# Altium schematic symbol library IC_DC-DC.SchLib: 8 symbols
Pins are listed as number, name and electrical type; pins without a type are passive.

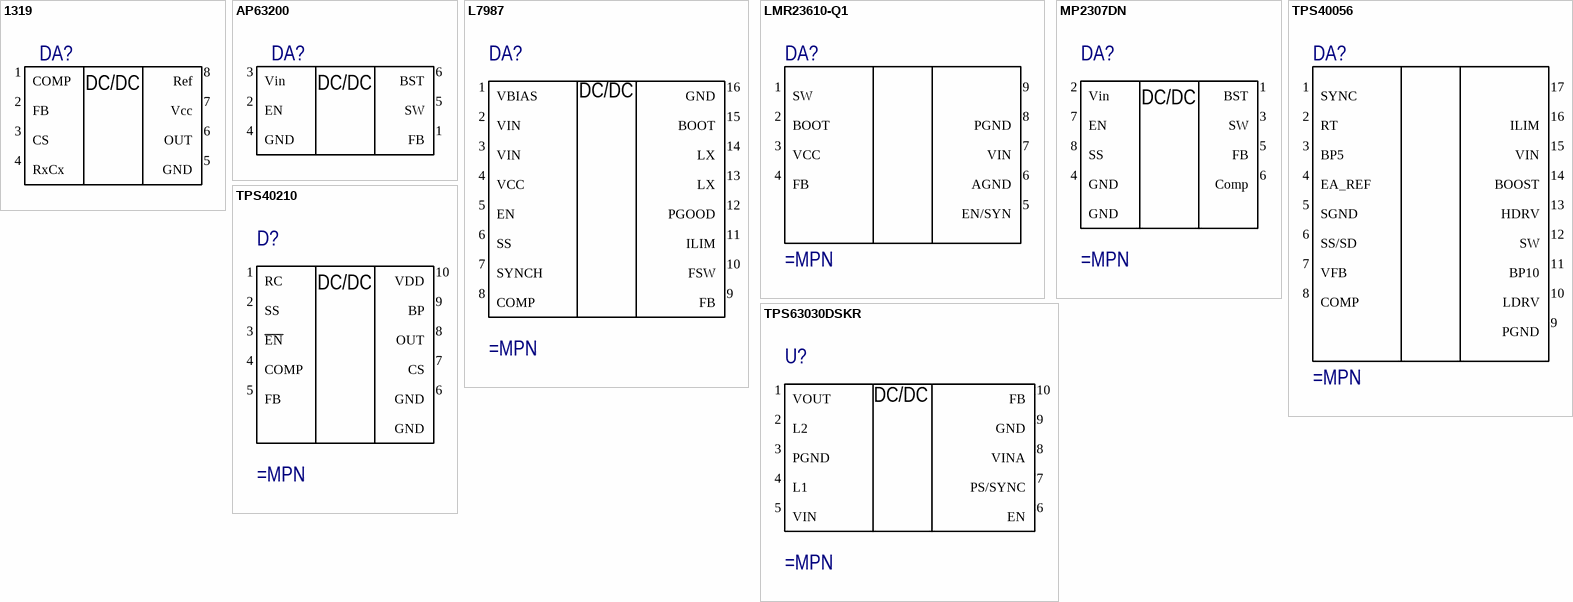
[diagram p0: symbols 1319 to TPS63030DSKR]

## 1319
designator DA?
pins: 1 COMP, 2 FB, 3 CS, 4 RxCx, 5 GND, 6 OUT, 7 Vcc, 8 Ref
text: DC/DC

## AP63200
designator DA?
pins: 1 FB, 2 EN, 3 Vin, 4 GND, 5 SW, 6 BST
text: DC/DC

## L7987
designator DA?
pins: 1 VBIAS, 2 VIN, 3 VIN, 4 VCC, 5 EN, 6 SS, 7 SYNCH, 8 COMP, 9 FB, 10 FSW, 11 ILIM, 12 PGOOD, 13 LX, 14 LX, 15 BOOT, 16 GND
text: DC/DC

## LMR23610-Q1
designator DA?
pins: 1 SW, 2 BOOT, 3 VCC, 4 FB, 5 EN/SYN, 6 AGND, 7 VIN, 8 PGND, 9

## MP2307DN
designator DA?
pins: 1 BST, 2 Vin, 3 SW, 4 GND, 5 FB, 6 Comp, 7 EN, 8 SS, EP GND
text: DC/DC

## TPS40056
designator DA?
pins: 1 SYNC, 2 RT, 3 BP5, 4 EA_REF, 5 SGND, 6 SS/SD, 7 VFB, 8 COMP, 9 PGND, 10 LDRV, 11 BP10, 12 SW, 13 HDRV, 14 BOOST, 15 VIN, 16 ILIM, 17 Thermal Pad

## TPS40210
designator D?
pins: 1 RC, 2 SS, 3 ~{EN}, 4 COMP, 5 FB, 6 GND, 7 CS, 8 OUT, 9 BP, 10 VDD, EP GND
text: DC/DC

## TPS63030DSKR
designator U?
pins: 1 VOUT, 2 L2, 3 PGND, 4 L1, 5 VIN, 6 EN, 7 PS/SYNC, 8 VINA, 9 GND, 10 FB
text: DC/DC